# Altium integrated library AMDLA1004S-470MT.IntLib: 1 symbol
Pins are listed as number, name and electrical type; pins without a type are passive.

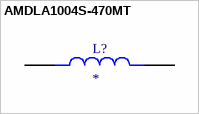
[diagram p0: symbol AMDLA1004S-470MT]

## AMDLA1004S-470MT
designator L?
FIXED IND 47UH 3.5A 143MOHM SMD; MP: AMDLA1004S-470MT; MF: Abracon LLC; Package: Package; Purchase-URL: https://pricing.snapeda.com/search/part/AMDLA1004S-470MT/?ref=eda; Check_prices: https://www.snapeda.com/parts/AMDLA1004S-470MT/Abracon+LLC/view-part/?ref=eda; SnapEDA_Link: https://www.snapeda.com/parts/AMDLA1004S-470MT/Abracon+LLC/view-part/?ref=snap; Availability: In Stock; Price: None; Value: *
footprint IND_AMDLA1004S-470MT
pins: 1, 2